# EAGLE library part DS3231SN# (library SamacSys_Parts)
Real Time Clock Serial Maxim DS3231SN# Real Time Clock, Battery Backup, Calendar, Clock, I2C, 5.5 V, 16-Pin SOIC Source: Datasheet <http://uk.rs-online.com/web/p/products/1897251>
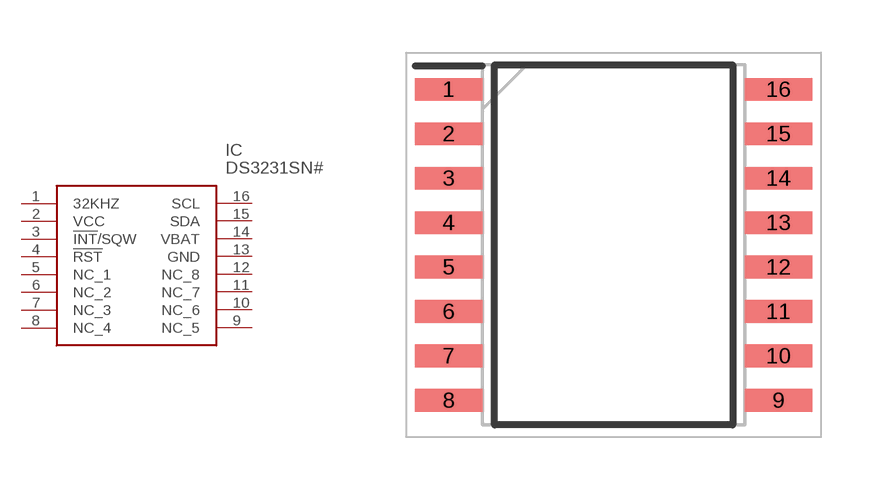
[diagram p5: symbol with the pads of SOIC127P1032X265-16N; footprint SOIC127P1032X265-16N]

Designator prefix IC

## DS3231SN# (DESCRIPTION: Real Time Clock Serial Maxim DS3231SN# Real Time Clock, Battery Backup, Calendar, Clock, I2C, 5.5 V, 16-Pin SOIC; HEIGHT: 2.65mm; MANUFACTURER_NAME: Maxim Integrated; MANUFACTURER_PART_NUMBER: DS3231SN#; RS_PART_NUMBER: 1897251; RS_PRICE-STOCK: http://uk.rs-online.com/web/p/products/1897251)  [SOIC127P1032X265-16N]
1  32KHZ
2  VCC  pwr
3  !INT!/SQW  in
4  !RST
5  NC_1
6  NC_2
7  NC_3
8  NC_4
9  NC_5
10  NC_6
11  NC_7
12  NC_8
13  GND  pwr
14  VBAT
15  SDA
16  SCL

## Footprint SOIC127P1032X265-16N (pad centres in mm)
DS1210S 16-pin SOIC (300-mil)
smd 1.925 x 0.65: 1 -4.712,4.445; 2 -4.712,3.175; 3 -4.712,1.905; 4 -4.712,0.635; 5 -4.712,-0.635; 6 -4.712,-1.905; 7 -4.712,-3.175; 8 -4.712,-4.445; 9 4.712,-4.445; 10 4.712,-3.175; 11 4.712,-1.905; 12 4.712,-0.635; 13 4.712,0.635; 14 4.712,1.905; 15 4.712,3.175; 16 4.712,4.445